# EAGLE library part 233-205/000-005 (library con-wago_233)
Stand: 01.01.2014. Die jeweils aktuellen Daten zu diesem Artikel finden Sie in unserem Produktkatalog, den Sie unter www.wago.com einsehen können. As of: 01/01/2014. Please find the newest data for this article in our product catalogue, which can be viewed under www.wago.com.
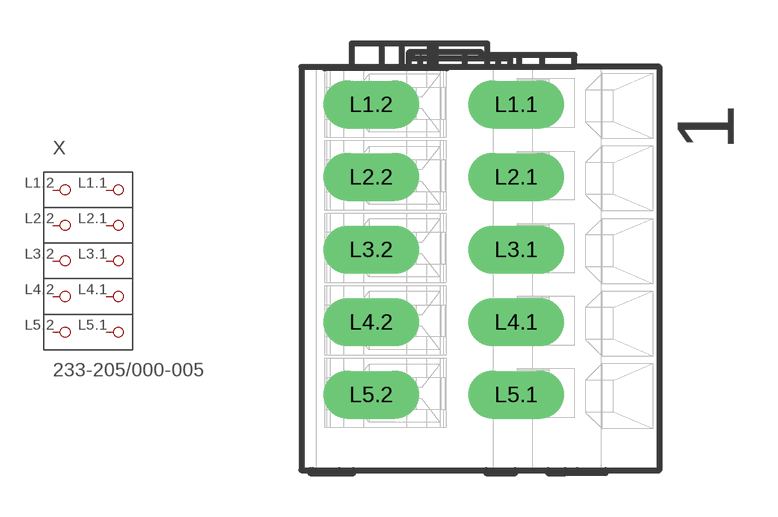
[diagram p134: symbol with the pads of P-233-205; footprint P-233-205]

Designator prefix X

## 233-205/000-005  [P-233-205]
L1.1  P1.1
L1.2  P1.2
L2.1  P2.1
L2.2  P2.2
L3.1  P3.1
L3.2  P3.2
L4.1  P4.1
L4.2  P4.2
L5.1  P5.1
L5.2  P5.2

## Footprint P-233-205 (pad centres in mm)
drill 1.1 long: L1.1 1.238,5.3; L1.2 -3.762,5.3; L2.1 1.238,2.8; L2.2 -3.762,2.8; L3.1 1.238,0.3; L3.2 -3.762,0.3; L4.1 1.238,-2.2; L4.2 -3.762,-2.2; L5.1 1.238,-4.7; L5.2 -3.762,-4.7